# Altium integrated library USB4145-03-0230-C_REVA2.Library.IntLib: 1 symbol
Pins are listed as number, name and electrical type; pins without a type are passive.

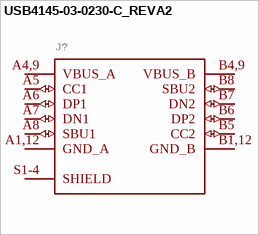
[diagram p0: symbol USB4145-03-0230-C_REVA2]

## USB4145-03-0230-C_REVA2
designator J?
MANUFACTURER: GCT; GateName_1: G$1; SymbolName_1: USB4145-03-0230-C_REVA2; SNAPEDA_PN: USB4145-03-0230-C; LibraryName: USB4145-03-0230-C_REVA2; DeviceSetName: USB4145-03-0230-C_REVA2; Package: GCT_USB4145-03-0230-C_REVA2; PARTREV: A2; STANDARD: Manufacturer Recommendations; MAXIMUM_PACKAGE_HEIGHT: 7.66mm
footprint GCT_USB4145-03-0230-C_REVA2
pins: A1,12 GND_A (power), A4,9 VBUS_A (power), A5 CC1 (io), A6 DP1 (io), A7 DN1 (io), A8 SBU1 (io), B1,12 GND_B (power), B4,9 VBUS_B (power), B5 CC2 (io), B6 DP2 (io), B7 DN2 (io), B8 SBU2 (io), S1-4 SHIELD